# Altium footprint library R_0805.PcbLib: 1 footprints
Each footprint in its own frame and in the unit in brackets; x right, y up, seen from the top. Pads: shape width x height; smd on the part's side, far side on the other; paste and mask are expansions set on the pad; w line width, h text height; cw(c..) or ccw(c..) is an arc to the next point about the centre after c.
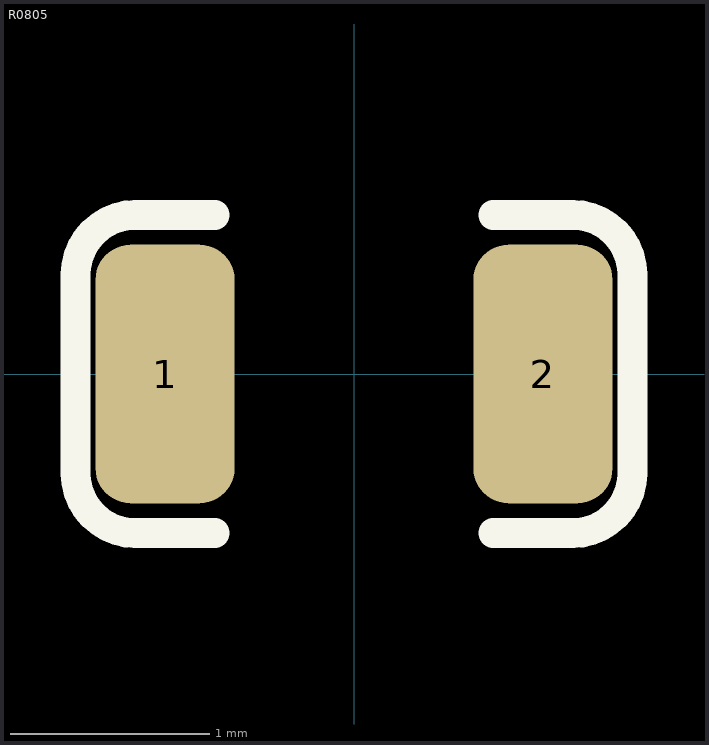
[diagram p0: the footprint, top view; thin cyan lines are the x and y axes]

## R0805 [mm]
pads (2):
  rrect50% 0.7x1.3 smd: 1(-0.95,0) 2(0.95,0)
Top Overlay:
  lines w0.15: -0.7,-0.8 -1.1,-0.8 cw(c-1.1,-0.5) -1.4,-0.5 -1.4,0.5 cw(c-1.1,0.5) -1.1,0.8 -0.7,0.8 ; 0.7,-0.8 1.1,-0.8 ccw(c1.1,-0.5) 1.4,-0.5 1.4,0.5 ccw(c1.1,0.5) 1.1,0.8 0.7,0.8
3D body "RC0805.stp": height 0.5, standoff 0, extent -1,-0.625 1,0.625